# EAGLE library part S7B-PH (library con-jst-ph)
JST PH series header 2.00mm pitch disconnectable crimp style connectors, horizontal (side entry type), 7 pins
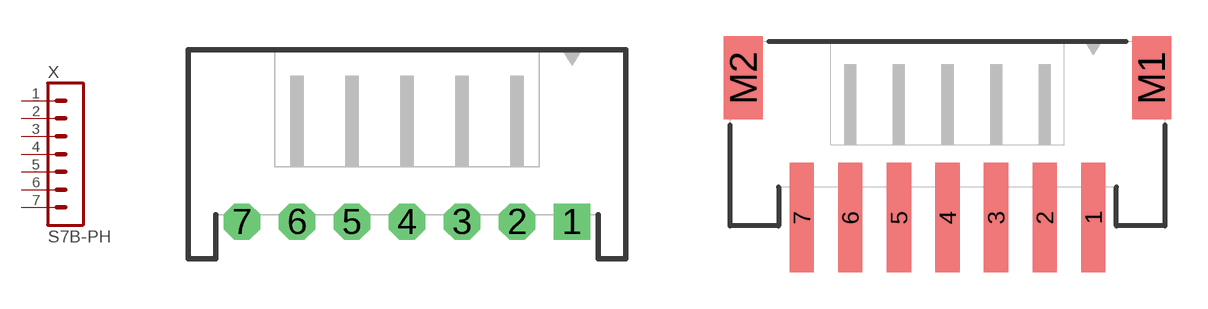
[diagram p12: symbol with the pads of S7B-PH-KL-S; footprints S7B-PH-KL-S, S7B-PH-SM4-TB]

Designator prefix X

## S7B-PH-KL-S  [S7B-PH-KL-S]
1  1  pas
2  2  pas
3  3  pas
4  4  pas
5  5  pas
6  6  pas
7  7  pas

## S7B-PH-SM4-TB  [S7B-PH-SM4-TB]
Pads as for S7B-PH-KL-S

## Footprint S7B-PH-KL-S (pad centres in mm)
JST PH series header 2.00mm pitch disconnectable crimp style connectors, through-hole horizontal (side entry type), 7 pins
drill 0.7 pad 1.321 square: 1 6,0
drill 0.7 pad 1.321 octagon: 2 4,0; 3 2,0; 4 0,0; 5 -2,0; 6 -4,0; 7 -6,0

## Footprint S7B-PH-SM4-TB (pad centres in mm)
JST PH series header 2.00mm pitch disconnectable crimp style connectors, SMT horizontal (side entry type), 7 pins
smd 1 x 4.5: 1 6,0; 2 4,0; 3 2,0; 4 0,0; 5 -2,0; 6 -4,0; 7 -6,0
smd 1.6 x 3.4: M1 8.4,5.75; M2 -8.4,5.75